# Altium schematic symbol library 395111004.SchLib: 1 symbol
Pins are listed as number, name and electrical type; pins without a type are passive.

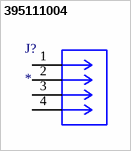
[diagram p0: symbol 395111004]

## 395111004
designator J?
Conn Shrouded Header (4 Sides) HDR 4 POS 3.81mm Solder ST Top Entry Thru-Hole Eurostyle; MF: Molex; MP: 395111004; SnapEDA_Link: https://www.snapeda.com/parts/395111004/Molex/view-part/?ref=snap; Package: None; Value: *; Check_prices: https://www.snapeda.com/parts/395111004/Molex/view-part/?ref=eda
footprint CONN_SD-39511-001_04P_MOL
pins: 1, 2, 3, 4